# Altium footprint library WE-SL1.PcbLib: 1 footprints
Each footprint in its own frame and in the unit in brackets; x right, y up, seen from the top. Pads: shape width x height; smd on the part's side, far side on the other; paste and mask are expansions set on the pad; w line width, h text height; cw(c..) or ccw(c..) is an arc to the next point about the centre after c.
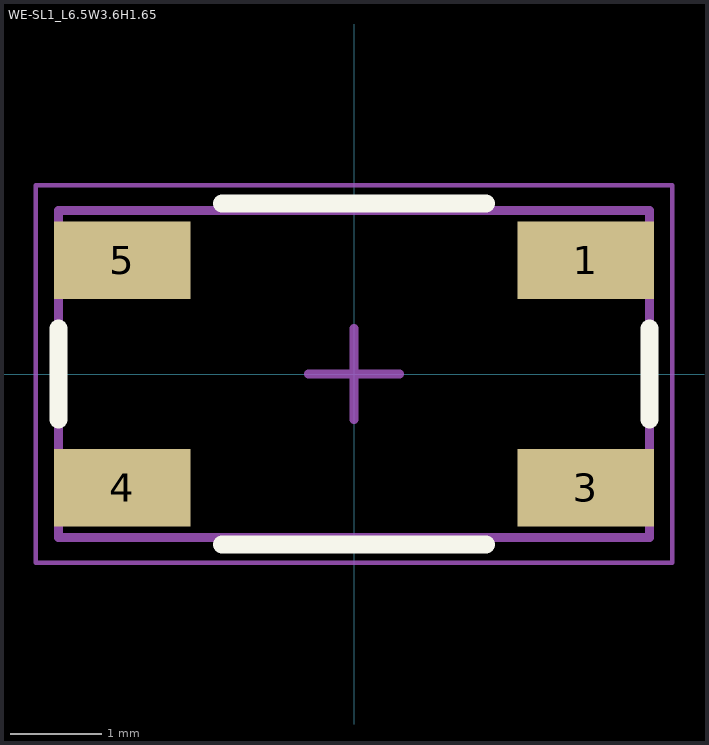
[diagram p0: the footprint, top view; thin cyan lines are the x and y axes]

## WE-SL1_L6.5W3.6H1.65 [mm] "SMD Inductor, 4-Leads, Body 6.5x3.6mm"
height 1.65
pads (4):
  rect 1.5x0.85 smd: 1(2.55,1.25) 3(2.55,-1.25) 4(-2.55,-1.25) 5(-2.55,1.25)
Top Overlay:
  lines w0.2: -3.25,-0.5 -3.25,0.5 ; -1.45,-1.875 1.45,-1.875 ; -1.45,1.875 1.45,1.875 ; 3.25,-0.5 3.25,0.5
Top Component Outline:
  lines w0.1: -3.25,-1.8 -3.25,1.8 3.25,1.8 3.25,-1.8 -3.25,-1.8
Top Designator:
  text ".Designator" at -3.647,-0.357 h1
Top 3D Body:
  lines w0.1: -3.25,-1.8 -3.25,1.8 3.25,1.8 3.25,-1.8 -3.25,-1.8
Top Courtyard:
  lines w0.05: -3.5,-2.075 3.5,-2.075 3.5,2.075 -3.5,2.075 -3.5,-2.075
Top Component Center:
  lines w0.1: -0.5,0 0.5,0 ; 0,-0.5 0,0.5
3D body "744212xxx.stp": height 1.65, standoff -0.01, extent -2.6,-1.8 2.6,1.8